# Altium footprint library Connfly_DS1126-S80BP.PcbLib: 1 footprints
Each footprint in its own frame and in the unit in brackets; x right, y up, seen from the top. Pads: shape width x height; smd on the part's side, far side on the other; paste and mask are expansions set on the pad; w line width, h text height; cw(c..) or ccw(c..) is an arc to the next point about the centre after c.
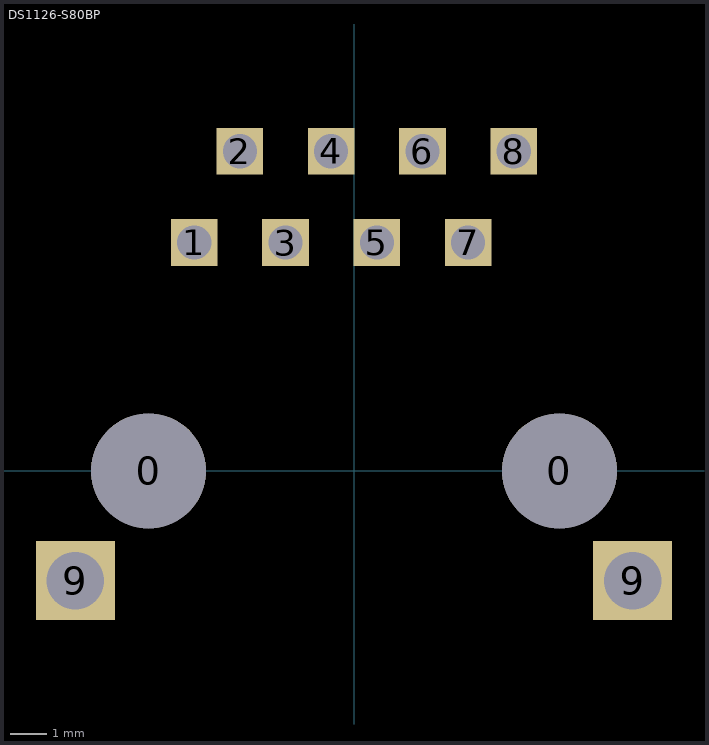
[diagram p0: the footprint, top view; thin cyan lines are the x and y axes]

## DS1126-S80BP [mm] "RJ45 shielded THT straight PCB connector"
pads (12):
  round 3.2 hole 3.2 unplated: 0(-5.715,0) 0(5.715,0)
  rect 1.3x1.3 hole 0.95: 1(-4.445,6.35) 2(-3.175,8.89) 3(-1.905,6.35) 4(-0.635,8.89) 5(0.635,6.35) 6(1.905,8.89) 7(3.175,6.35) 8(4.445,8.89)
  rect 2.2x2.2 hole 1.6: 9(-7.75,-3.05) 9(7.75,-3.05)
3D body: height 10, standoff 2, extent -6.1,-7.97 6.1,-7.07
3D body: height 2, standoff 0, extent -1.9,-7.97 1.9,-7.07
3D body: height 12.2, standoff 0, extent -7.9,-7.96 7.9,10.44